# Altium footprint library VReg5V.PcbLib: 1 footprints
Each footprint in its own frame and in the unit in brackets; x right, y up, seen from the top. Pads: shape width x height; smd on the part's side, far side on the other; paste and mask are expansions set on the pad; w line width, h text height; cw(c..) or ccw(c..) is an arc to the next point about the centre after c.
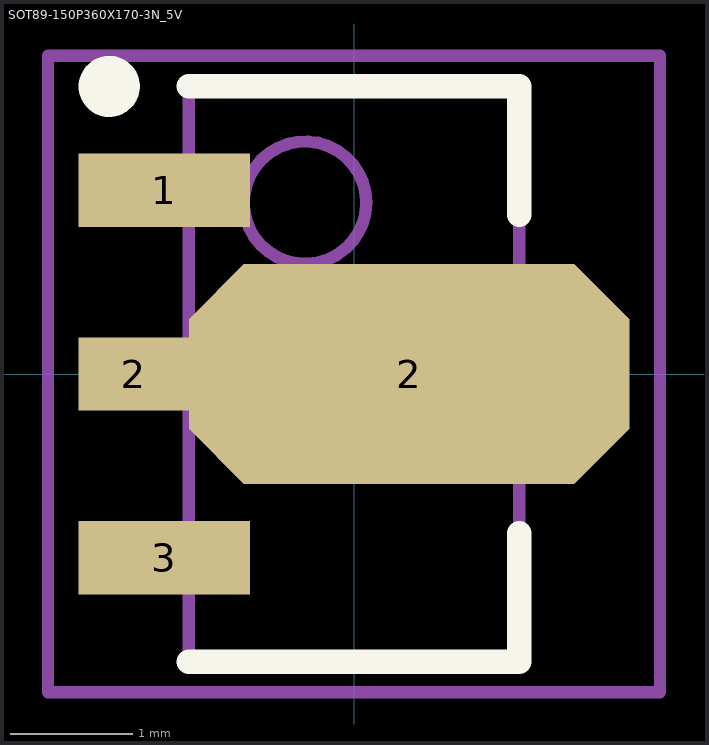
[diagram p0: the footprint, top view; thin cyan lines are the x and y axes]

## SOT89-150P360X170-3N_5V [mm] "SOT89, 3-Leads, Body 4.5x2.5mm (max), Pitch 1.50mm, Lead Span 3.6mm, IPC Medium Density"
height 1.7
pads (4):
  rect 1.4x0.6 smd: 1(-1.55,1.5) 3(-1.55,-1.5)
  rect 0.9x0.6 smd: 2(-1.8,0)
  oct 3.6x1.8 smd: 2(0.45,0)
Top Overlay:
  circle w0.25: c-2,2.35 r0.125
  lines w0.2: -1.35,-2.35 1.35,-2.35 1.35,-1.3 ; -1.35,2.35 1.35,2.35 1.35,1.3
Mechanical 13:
  circle w0.1: c-0.4,1.4 r0.5
  lines w0.1: -1.35,-2.35 -1.35,2.35 1.35,2.35 1.35,-2.35 -1.35,-2.35
Mechanical 15:
  lines w0.1: -0.5,0 0.5,0 ; 0,-0.5 0,0.5 ; -2.5,-2.6 -2.5,2.6 2.5,2.6 2.5,-2.6 -2.5,-2.6
3D body: height 1.7, standoff 0, extent -1.35,-2.35 1.35,2.35